# EAGLE library part M80-6811242 (library GTEEL_gwu_mpnl_ucat_v10)
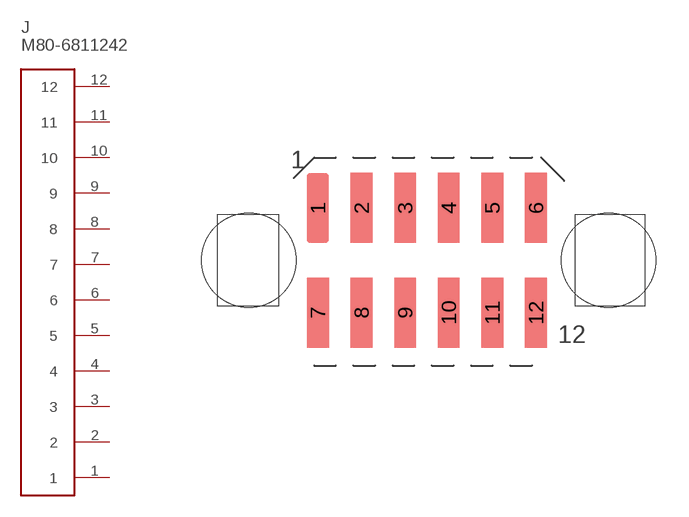
[diagram p1: symbol with the pads of M80-68112; footprint M80-68112]

Designator prefix J

## M80-6811242 (MF: HARWIN; MPN: M80-6811242)  [M80-68112]
1  1
2  2
3  3
4  4
5  5
6  6
7  7
8  8
9  9
10  10
11  11
12  12

## Footprint M80-68112 (pad centres in mm)
smd 1 x 3.2: 1 0,2.4; 2 2,2.4; 3 4,2.4; 4 6,2.4; 5 8,2.4; 6 10,2.4; 7 0,-2.4; 8 2,-2.4; 9 4,-2.4; 10 6,-2.4; 11 8,-2.4; 12 10,-2.4
hole 4.318 at -3.175,0
hole 4.318 at 13.335,0